# EAGLE library part ATMEGA162 (library eOscope)
35 GPIO, JTAG, 2 UART, 16 pin change interrupt
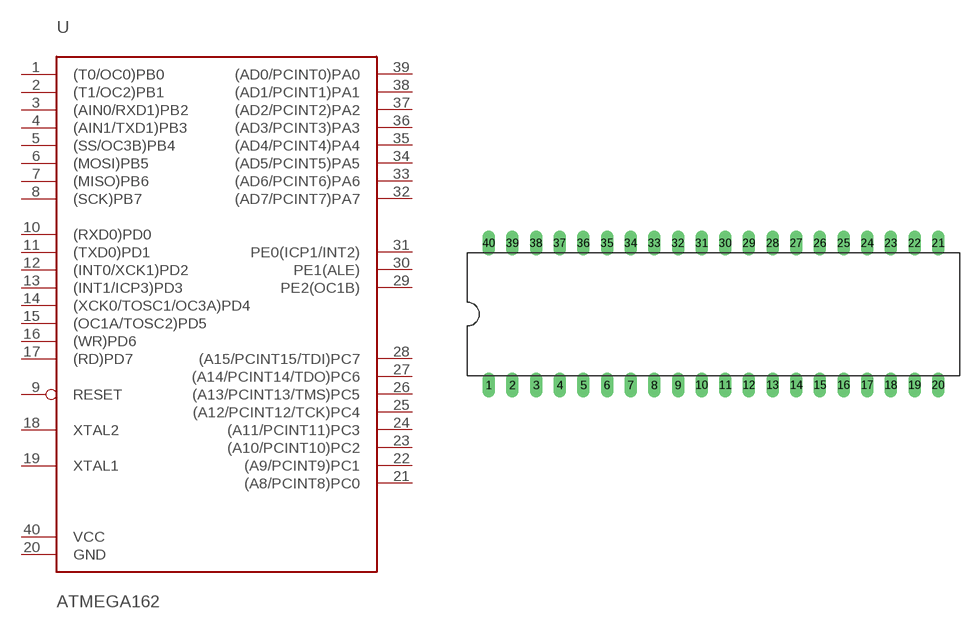
[diagram p1: symbol with the pads of DIL40; footprint DIL40]

Designator prefix -

## ATMEGA162  [DIL40]
1  (T0/OC0)PB0
2  (T1/OC2)PB1
3  (AIN0/RXD1)PB2
4  (AIN1/TXD1)PB3
5  (SS/OC3B)PB4
6  (MOSI)PB5
7  (MISO)PB6
8  (SCK)PB7
9  RESET  in
10  (RXD0)PD0
11  (TXD0)PD1
12  (INT0/XCK1)PD2
13  (INT1/ICP3)PD3
14  (XCK0/TOSC1/OC3A)PD4
15  (OC1A/TOSC2)PD5
16  (WR)PD6
17  (RD)PD7
18  XTAL2
19  XTAL1
20  GND  pwr
21  (A8/PCINT8)PC0
22  (A9/PCINT9)PC1
23  (A10/PCINT10)PC2
24  (A11/PCINT11)PC3
25  (A12/PCINT12/TCK)PC4
26  (A13/PCINT13/TMS)PC5
27  (A14/PCINT14/TDO)PC6
28  (A15/PCINT15/TDI)PC7
29  PE2(OC1B)
30  PE1(ALE)
31  PE0(ICP1/INT2)
32  (AD7/PCINT7)PA7
33  (AD6/PCINT6)PA6
34  (AD5/PCINT5)PA5
35  (AD4/PCINT4)PA4
36  (AD3/PCINT3)PA3
37  (AD2/PCINT2)PA2
38  (AD1/PCINT1)PA1
39  (AD0/PCINT0)PA0
40  VCC  pwr

## Footprint DIL40 (pad centres in mm)
DIP40 - dual in line
drill 0.813 long: 1 -22.86,-7.62; 2 -20.32,-7.62; 3 -17.78,-7.62; 4 -15.24,-7.62; 5 -12.7,-7.62; 6 -10.16,-7.62; 7 -7.62,-7.62; 8 -5.08,-7.62; 9 -2.54,-7.62; 10 0,-7.62; 11 2.54,-7.62; 12 5.08,-7.62; 13 7.62,-7.62; 14 10.16,-7.62; 15 12.7,-7.62; 16 15.24,-7.62; 17 17.78,-7.62; 18 20.32,-7.62; 19 22.86,-7.62; 20 25.4,-7.62; 21 25.4,7.62; 22 22.86,7.62; 23 20.32,7.62; 24 17.78,7.62; 25 15.24,7.62; 26 12.7,7.62; 27 10.16,7.62; 28 7.62,7.62; 29 5.08,7.62; 30 2.54,7.62; 31 0,7.62; 32 -2.54,7.62; 33 -5.08,7.62; 34 -7.62,7.62; 35 -10.16,7.62; 36 -12.7,7.62; 37 -15.24,7.62; 38 -17.78,7.62; 39 -20.32,7.62; 40 -22.86,7.62